# Altium footprint library CONN_FPC.PcbLib: 10 footprints
Each footprint in its own frame and in the unit in brackets; x right, y up, seen from the top. Pads: shape width x height; smd on the part's side, far side on the other; paste and mask are expansions set on the pad; w line width, h text height; cw(c..) or ccw(c..) is an arc to the next point about the centre after c.
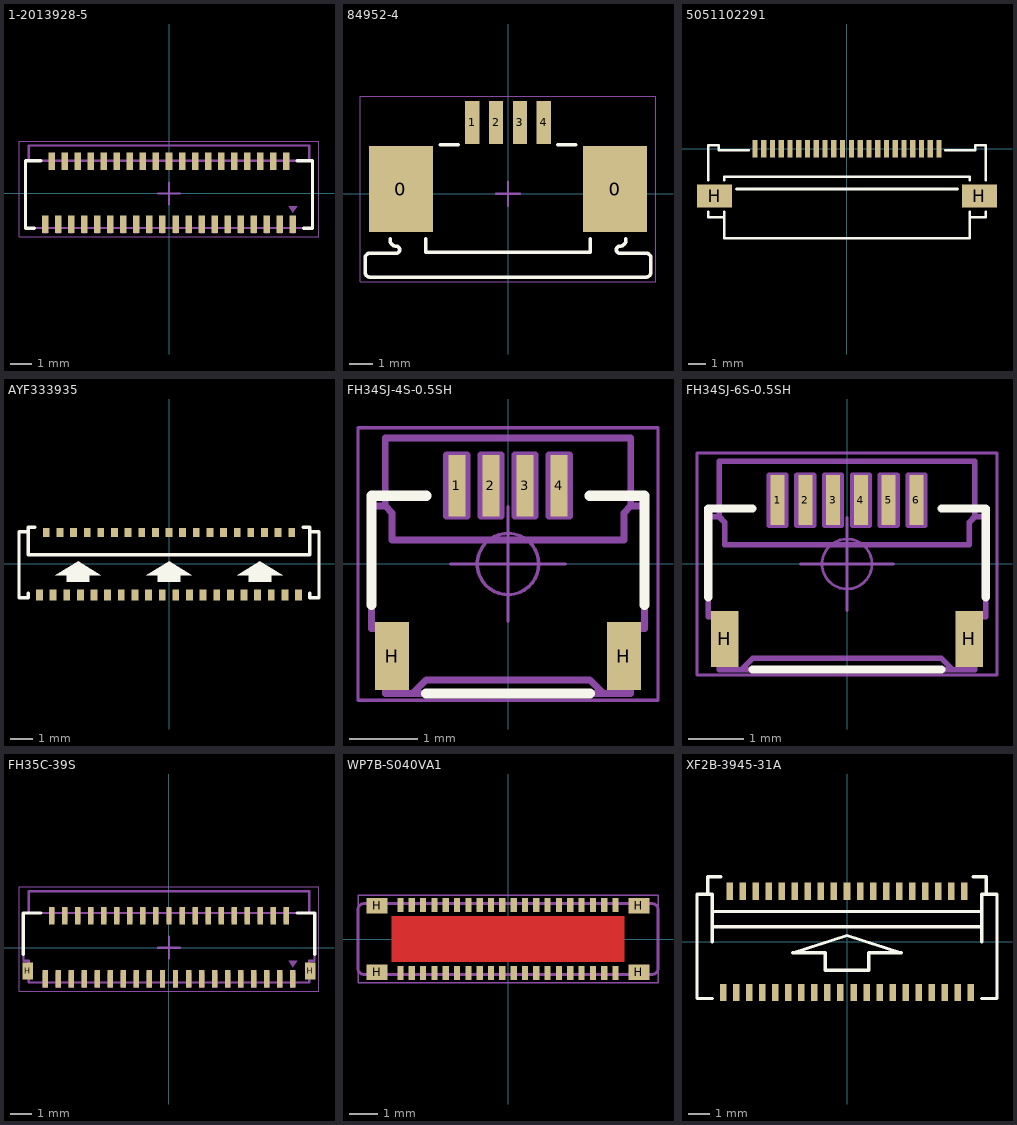
[diagram p0: the footprints below, top view; thin cyan lines are the x and y axes]

## 1-2013928-5 [mm] "CONN FPC TOP 39POS 0.30MM R/A"
pads (39):
  rect 0.3x0.8 smd: 1(5.7,-1.425) 2(5.4,1.475) 3(5.1,-1.425) 4(4.8,1.475) 5(4.5,-1.425) 6(4.2,1.475) 7(3.9,-1.425) 8(3.6,1.475) 9(3.3,-1.425) 10(3,1.475) 11(2.7,-1.425) 12(2.4,1.475) 13(2.1,-1.425) 14(1.8,1.475) 15(1.5,-1.425) 16(1.2,1.475) 17(0.9,-1.425) 18(0.6,1.475) 19(0.3,-1.425) 20(0,1.475) 21(-0.3,-1.425) 22(-0.6,1.475) 23(-0.9,-1.425) 24(-1.2,1.475) 25(-1.5,-1.425) 26(-1.8,1.475) 27(-2.1,-1.425) 28(-2.4,1.475) 29(-2.7,-1.425) 30(-3,1.475) 31(-3.3,-1.425) 32(-3.6,1.475) 33(-3.9,-1.425) 34(-4.2,1.475) 35(-4.5,-1.425) 36(-4.8,1.475) 37(-5.1,-1.425) 38(-5.4,1.475) 39(-5.7,-1.425)
Top Overlay:
  lines w0.15: -6.2,-1.6 -6.6,-1.6 -6.6,1.5 -5.9,1.5 ; 5.9,1.5 6.6,1.5 6.6,-1.6 6.2,-1.6
Mechanical 14:
  drawing of 166 lines, arcs and shapes, not listed
  text ".Designator" at -1.75,-0.2 h0.75
Mechanical 15:
  lines w0.05: -6.9,-2 6.9,-2 6.9,2.4 -6.9,2.4 -6.9,-2
  lines w0.1: -0.5,0 0.5,0 ; 0,-0.5 0,0.5
3D body "1-2013928-5.STEP": height 0.93, standoff -0.02, extent -6.5,-1.6 6.5,2.2

## 84952-4 [mm]
pads (6):
  rect 2.68x3.6 smd: 0(-4.5,0.2) 0(4.5,0.2)
  rect 0.6x1.8 smd: 1(-1.5,3) 2(-0.5,3) 3(0.5,3) 4(1.5,3)
Top Overlay:
  lines w0.15: -4.95,-1.9 -4.95,-1.95 ccw(c-4.7,-1.95) -4.7,-2.2 cw(c-4.7,-2.35) -4.55,-2.35 cw(c-4.7,-2.35) -4.7,-2.5 -5.8,-2.5 ccw(c-5.8,-2.7) -6,-2.7 -6,-3.3 ccw(c-5.8,-3.3) -5.8,-3.5 5.8,-3.5 ccw(c5.8,-3.3) 6,-3.3 6,-2.7 ccw(c5.8,-2.7) 5.8,-2.5 4.7,-2.5 cw(c4.7,-2.35) 4.55,-2.35 cw(c4.7,-2.35) 4.7,-2.2 ccw(c4.7,-1.95) 4.95,-1.95 4.95,-1.9 ; -3.45,-1.9 -3.45,-2.45 3.45,-2.45 3.45,-1.9 ; -2.85,2.05 -2.1,2.05 ; 2.1,2.05 2.85,2.05
Mechanical 14:
  text ".Designator" at -1.95,-0.65 h0.75
Mechanical 15:
  lines w0.05: -6.2,-3.7 6.2,-3.7 6.2,4.1 -6.2,4.1 -6.2,-3.7
  lines w0.1: -0.5,0 0.5,0 ; 0,-0.5 0,0.5
3D body "84952-4.stp": height 2.54, standoff -0.02, extent -5.96,-3.44 5.96,3.1

## 5019123590 [mm] "0.30mm Pitch Easy-On™ Type FPC Connector, Right Angle, Surface Mount, Bottom Contact Style, 1.80mm Mated Height, 35 Circuits"
Mechanical 14:
  text ".Designator" at -1.95,0.15 h0.5
3D body "5019123590.stp": height 0, standoff -3.85, extent -6.3,-0.45 6.3,1.35

## 5051102291 [mm] "22 Position FFC, FPC Connector Contacts, Bottom 0.020\" (0.50mm) Surface Mount, Right Angle"
pads (24):
  rect 0.3x1 smd: 1(5.25,0) 2(4.75,0) 3(4.25,0) 4(3.75,0) 5(3.25,0) 6(2.75,0) 7(2.25,0) 8(1.75,0) 9(1.25,0) 10(0.75,0) 11(0.25,0) 12(-0.25,0) 13(-0.75,0) 14(-1.25,0) 15(-1.75,0) 16(-2.25,0) 17(-2.75,0) 18(-3.25,0) 19(-3.75,0) 20(-4.25,0) 21(-4.75,0) 22(-5.25,0)
  rect 2x1.3 smd: H(-7.55,-2.7) H(7.55,-2.7)
Top Overlay:
  lines w0.15: -7.9,-3.6 -7.9,-3.9 -7,-3.9 ; -7.9,-1.8 -7.9,0.2 -7.3,0.2 -7.3,-0.1 -5.6,-0.1 ; -7,-3.6 -7,-3.9 ; -7,-1.8 -7,-1.6 7,-1.6 7,-1.8 ; -6.3,-2.3 6.3,-2.3 ; 5.6,-0.1 7.3,-0.1 7.3,0.2 7.9,0.2 7.9,-1.8 ; 7,-3.6 7,-3.9 ; 7.9,-3.6 7.9,-3.9 7,-3.9 ; -7,-3.9 -7,-5.1 7,-5.1 7,-3.9
3D body "5051102291.STEP": height 1.88, standoff -0.02, extent -8.25,-5.1 8.25,0.2

## AYF333935 [mm] "Y3B series FPC connector (0.3mm pitch) Back lock"
pads (39):
  rect 0.3x0.5 smd mask+0.075: 1(-5.7,-1.38) 3(-5.1,-1.38) 5(-4.5,-1.38) 7(-3.9,-1.38) 9(-3.3,-1.38) 11(-2.7,-1.38) 13(-2.1,-1.38) 15(-1.5,-1.38) 17(-0.9,-1.38) 19(-0.3,-1.38) 21(0.3,-1.38) 23(0.9,-1.38) 25(1.5,-1.38) 27(2.1,-1.38) 29(2.7,-1.38) 31(3.3,-1.38) 33(3.9,-1.38) 35(4.5,-1.38) 37(5.1,-1.38) 39(5.7,-1.38)
  rect 0.3x0.4 smd mask+0.075: 2(-5.4,1.38) 4(-4.8,1.38) 6(-4.2,1.38) 8(-3.6,1.38) 10(-3,1.38) 12(-2.4,1.38) 14(-1.8,1.38) 16(-1.2,1.38) 18(-0.6,1.38) 20(0,1.38) 22(0.6,1.38) 24(1.2,1.38) 26(1.8,1.38) 28(2.4,1.38) 30(3,1.38) 32(3.6,1.38) 34(4.2,1.38) 36(4.8,1.38) 38(5.4,1.38)
Top Overlay:
  region: -0.5,-0.8 0.5,-0.8 0.5,-0.5 1,-0.5 0,0.1 -1,-0.5 -0.5,-0.5
  region: -3.5,-0.8 -4.5,-0.8 -4.5,-0.5 -5,-0.5 -4,0.1 -3,-0.5 -3.5,-0.5
  region: 3.5,-0.8 4.5,-0.8 4.5,-0.5 5,-0.5 4,0.1 3,-0.5 3.5,-0.5
  lines w0.15: -6.2,-1.3 -6.2,-1.5 -6.6,-1.5 -6.6,1.4 -6.2,1.4 ; -5.9,1.6 -6.2,1.6 -6.2,1.4 ; 5.9,1.6 6.2,1.6 6.2,1.4 ; 6.2,-1.3 6.2,-1.5 6.6,-1.5 6.6,1.4 6.2,1.4 ; -6.2,1.4 -6.2,0.4 6.2,0.4 6.2,1.4
Mechanical 14:
  text ".Designator" at -2.75,-0.35 h0.75
3D body "ayf333935.STEP": height 0.9, standoff 0, extent -6.6,-1.475 6.6,1.675

## FH34SJ-4S-0.5SH [mm]
pads (6):
  rect 0.25x0.9 smd: 1(-0.75,1.15) 2(-0.25,1.15) 3(0.25,1.15) 4(0.75,1.15)
  rect 0.5x1 smd: H(-1.7,-1.35) H(1.7,-1.35)
Top Overlay:
  lines w0.15: -2,-0.6 -2,1 -1.2,1 ; -1.2,-1.9 1.2,-1.9 ; 1.2,1 2,1 2,-0.6
Mechanical 14:
  lines w0.1: -1.4,-1.9 -1.2,-1.7 1.2,-1.7 1.4,-1.9 ; -1.8,0.85 -2,0.85 -2,-0.95 -1.8,-0.95 -1.8,-1.9 1.8,-1.9 1.8,-0.95 2,-0.95 2,0.85 1.8,0.85 ; -1.8,0.85 -1.8,1.85 1.8,1.85 1.8,0.85 ; -1.8,0.85 -1.7,0.75 -1.7,0.35 1.7,0.35 1.7,0.75 1.8,0.85 ; -1.85,-1.8 -1.85,-0.9 -1.55,-0.9 -1.55,-1.8 -1.85,-1.8 ; -0.9,0.7 -0.6,0.7 -0.6,1.6 -0.9,1.6 -0.9,0.7 ; -0.4,0.7 -0.4,1.6 -0.1,1.6 -0.1,0.7 -0.4,0.7 ; 0.1,0.7 0.1,1.6 0.4,1.6 0.4,0.7 0.1,0.7 ; 0.6,0.7 0.6,1.6 0.9,1.6 0.9,0.7 0.6,0.7 ; 1.55,-1.8 1.55,-0.9 1.85,-0.9 1.85,-1.8 1.55,-1.8
  text ".Designator" at -1.2,-0.8 h0.75
Mechanical 15:
  circle w0.05: c0,0 r0.45
  lines w0.05: -0.838,0 0.837,0 ; 0,-0.838 0,0.837 ; -2.2,-2 2.2,-2 2.2,2 -2.2,2 -2.2,-2
3D body "FH34SRJ-4S-0.5SH.stp": height 1, standoff 0, extent -2,-1.9 2,1.9

## FH34SJ-6S-0.5SH [mm]
pads (8):
  rect 0.25x0.9 smd: 1(-1.25,1.15) 2(-0.75,1.15) 3(-0.25,1.15) 4(0.25,1.15) 5(0.75,1.15) 6(1.25,1.15)
  rect 0.5x1 smd: H(-2.2,-1.35) H(2.2,-1.35)
Top Overlay:
  lines w0.15: -2.5,-0.6 -2.5,1 -1.7,1 ; -1.7,-1.9 1.7,-1.9 ; 1.7,1 2.5,1 2.5,-0.6
Mechanical 14:
  lines w0.1: -1.9,-1.9 -1.7,-1.7 1.7,-1.7 1.9,-1.9 ; -2.3,0.85 -2.5,0.85 -2.5,-0.95 -2.3,-0.95 -2.3,-1.9 2.3,-1.9 2.3,-0.95 2.5,-0.95 2.5,0.85 2.3,0.85 ; -2.3,0.85 -2.3,1.85 2.3,1.85 2.3,0.85 ; -2.3,0.85 -2.2,0.75 -2.2,0.35 2.2,0.35 2.2,0.75 2.3,0.85 ; -2.35,-1.8 -2.35,-0.9 -2.05,-0.9 -2.05,-1.8 -2.35,-1.8 ; -1.4,0.7 -1.1,0.7 -1.1,1.6 -1.4,1.6 -1.4,0.7 ; -0.9,0.7 -0.9,1.6 -0.6,1.6 -0.6,0.7 -0.9,0.7 ; -0.4,0.7 -0.4,1.6 -0.1,1.6 -0.1,0.7 -0.4,0.7 ; 0.1,0.7 0.1,1.6 0.4,1.6 0.4,0.7 0.1,0.7 ; 0.6,0.7 0.9,0.7 0.9,1.6 0.6,1.6 0.6,0.7 ; 1.1,0.7 1.4,0.7 1.4,1.6 1.1,1.6 1.1,0.7 ; 2.05,-1.8 2.35,-1.8 2.35,-0.9 2.05,-0.9 2.05,-1.8
  text ".Designator" at -0.8,-0.9 h0.75
Mechanical 15:
  circle w0.05: c0,0 r0.45
  lines w0.05: -0.838,0 0.837,0 ; 0,-0.838 0,0.837 ; -2.7,-2 2.7,-2 2.7,2 -2.7,2 -2.7,-2
3D body "FH34SRJ-4S-0.5SH.stp": height 1, standoff 0, extent -1.5,-1.9 2.5,1.9
3D body "FH34SRJ-4S-0.5SH.stp": height 1, standoff 0, extent -2.5,-1.9 1.5,1.9

## FH35C-39S [mm]
pads (41):
  rect 0.25x0.8 smd: 1(5.7,-1.425) 2(5.4,1.475) 3(5.1,-1.425) 4(4.8,1.475) 5(4.5,-1.425) 6(4.2,1.475) 7(3.9,-1.425) 8(3.6,1.475) 9(3.3,-1.425) 10(3,1.475) 11(2.7,-1.425) 12(2.4,1.475) 13(2.1,-1.425) 14(1.8,1.475) 15(1.5,-1.425) 16(1.2,1.475) 17(0.9,-1.425) 18(0.6,1.475) 19(0.3,-1.425) 20(0,1.475) 21(-0.3,-1.425) 22(-0.6,1.475) 23(-0.9,-1.425) 24(-1.2,1.475) 25(-1.5,-1.425) 26(-1.8,1.475) 27(-2.1,-1.425) 28(-2.4,1.475) 29(-2.7,-1.425) 30(-3,1.475) 31(-3.3,-1.425) 32(-3.6,1.475) 33(-3.9,-1.425) 34(-4.2,1.475) 35(-4.5,-1.425) 36(-4.8,1.475) 37(-5.1,-1.425) 38(-5.4,1.475) 39(-5.7,-1.425)
  rect 0.5x0.8 smd: H(-6.5,-1.07) H(6.5,-1.07)
Top Overlay:
  lines w0.15: -6.7,-0.3 -6.7,1.6 -5.9,1.6 ; 5.9,1.6 6.7,1.6 6.7,-0.3
Mechanical 14:
  drawing of 168 lines, arcs and shapes, not listed
  text ".Designator" at -1.75,-0.2 h0.75
Mechanical 15:
  lines w0.05: -6.9,-2 6.9,-2 6.9,2.8 -6.9,2.8 -6.9,-2
  lines w0.1: -0.5,0 0.5,0 ; 0,-0.5 0,0.5
3D body "FH35-39S-0.3SHW.stp": height 0.89, standoff -0.01, extent -6.65,-1.6 6.65,2.6

## WP7B-S040VA1 [mm]
pads (44):
  rect 0.22x0.5 smd: 1(-3.8,1.2) 2(-3.8,-1.2) 3(-3.4,1.2) 4(-3.4,-1.2) 5(-3,1.2) 6(-3,-1.2) 7(-2.6,1.2) 8(-2.6,-1.2) 9(-2.2,1.2) 10(-2.2,-1.2) 11(-1.8,1.2) 12(-1.8,-1.2) 13(-1.4,1.2) 14(-1.4,-1.2) 15(-1,1.2) 16(-1,-1.2) 17(-0.6,1.2) 18(-0.6,-1.2) 19(-0.2,1.2) 20(-0.2,-1.2) 21(0.2,1.2) 22(0.2,-1.2) 23(0.6,1.2) 24(0.6,-1.2) 25(1,1.2) 26(1,-1.2) 27(1.4,1.2) 28(1.4,-1.2) 29(1.8,1.2) 30(1.8,-1.2) 31(2.2,1.2) 32(2.2,-1.2) 33(2.6,1.2) 34(2.6,-1.2) 35(3,1.2) 36(3,-1.2) 37(3.4,1.2) 38(3.4,-1.2) 39(3.8,1.2) 40(3.8,-1.2)
  rect 0.75x0.55 smd: H(-4.625,-1.175) H(-4.625,1.175) H(4.625,-1.175) H(4.625,1.175)
Top Layer:
  pour cut-out: -4.1,0.8 -4.1,-0.8 4.1,-0.8 4.1,0.8
Mechanical 14:
  lines w0.1: -5.3,-1.05 ccw(c-5.1,-1.05) -5.1,-1.25 5.1,-1.25 ccw(c5.1,-1.05) 5.3,-1.05 5.3,1.05 ccw(c5.1,1.05) 5.1,1.25 -5.1,1.25 ccw(c-5.1,1.05) -5.3,1.05 -5.3,-1.05
Mechanical 15:
  lines w0.05: -5.3,-1.55 -5.3,1.55 5.3,1.55 5.3,-1.55 -5.3,-1.55
3D body "JAE_WP7B-S040VA1.STEP": height 0.67, standoff -0.01, extent -5.3,-1.25 5.3,1.262

## XF2B-3945-31A [mm]
pads (39):
  rect 0.3x0.8 smd: 1(-5.7,-2.325) 2(-5.4,2.325) 3(-5.1,-2.325) 4(-4.8,2.325) 5(-4.5,-2.325) 6(-4.2,2.325) 7(-3.9,-2.325) 8(-3.6,2.325) 9(-3.3,-2.325) 10(-3,2.325) 11(-2.7,-2.325) 12(-2.4,2.325) 13(-2.1,-2.325) 14(-1.8,2.325) 15(-1.5,-2.325) 16(-1.2,2.325) 17(-0.9,-2.325) 18(-0.6,2.325) 19(-0.3,-2.325) 20(0,2.325) 21(0.3,-2.325) 22(0.6,2.325) 23(0.9,-2.325) 24(1.2,2.325) 25(1.5,-2.325) 26(1.8,2.325) 27(2.1,-2.325) 28(2.4,2.325) 29(2.7,-2.325) 30(3,2.325) 31(3.3,-2.325) 32(3.6,2.325) 33(3.9,-2.325) 34(4.2,2.325) 35(4.5,-2.325) 36(4.8,2.325) 37(5.1,-2.325) 38(5.4,2.325) 39(5.7,-2.325)
Top Overlay:
  lines w0.15: -6.2,-2.6 -6.9,-2.6 -6.9,2.2 -6.4,2.2 ; -6.2,0 -6.2,2.2 -6.4,2.2 ; -6.2,0.7 6.2,0.7 ; -6.2,1.4 6.2,1.4 ; -5.8,3 -6.4,3 -6.4,2.2 ; 5.8,3 6.4,3 6.4,2.2 ; 6.2,-2.6 6.9,-2.6 6.9,2.2 6.4,2.2 ; 6.2,0 6.2,2.2 6.4,2.2 ; -2.5,-0.5 0,0.3 2.5,-0.5 1,-0.5 1,-1.3 -1,-1.3 -1,-0.5 -2.5,-0.5
Mechanical 14:
  text ".Designator" at -2.35,-0.6 h0.75
3D body "XF2B_3945_31A.step": height 1.2, standoff 0, extent -6.8,-2.6 6.8,2.9